# Altium footprint library CONN_TBLOCK_8P25to15P0.PcbLib: 118 footprints (part 8 of 8)
Each footprint in its own frame and in the unit in brackets; x right, y up, seen from the top. Pads: shape width x height; smd on the part's side, far side on the other; paste and mask are expansions set on the pad; w line width, h text height; cw(c..) or ccw(c..) is an arc to the next point about the centre after c.
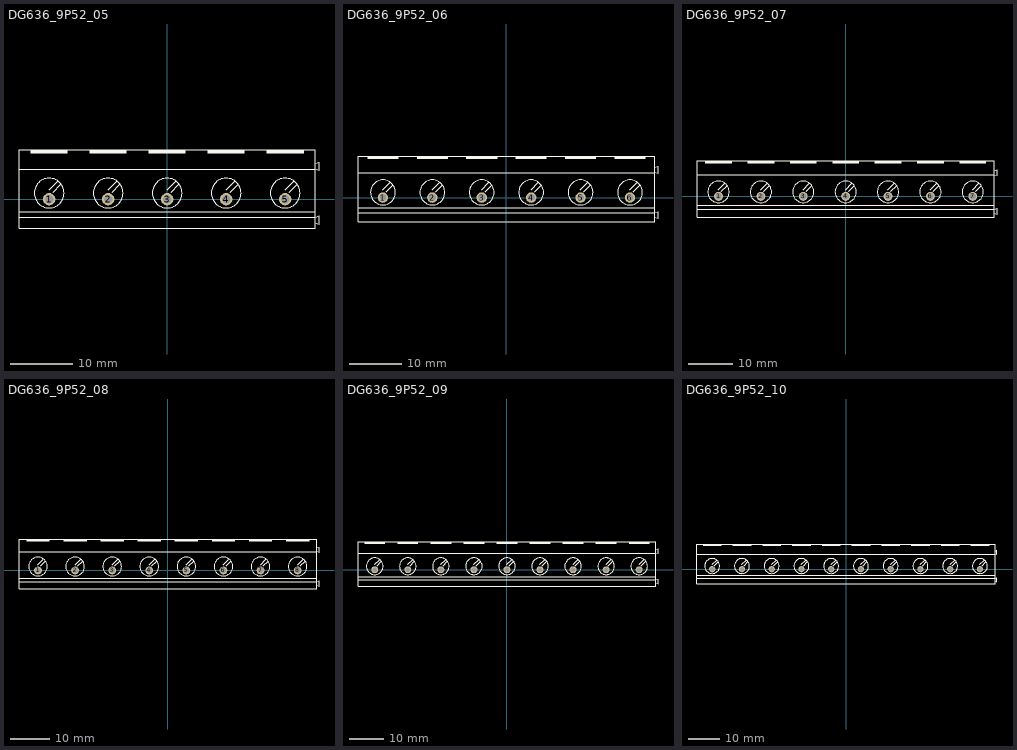
[diagram p7: the footprints below, top view; thin cyan lines are the x and y axes]

## DG636_9P52_05 [mm] "Terminal Block Screw, Pitch 9.52mm, 30A/300v"
height 21.5
pads (5):
  round 2 / inner round 2 / far side oval 2.8x4 hole 1.4: 1(-19.04,0) 2(-9.52,0) 3(0,0) 4(9.52,0) 5(19.04,0)
Top Overlay:
  circle w0.2: c19.04,1 r2.4
  circle w0.2: c9.52,1 r2.4
  circle w0.2: c0,1 r2.4
  circle w0.2: c-9.52,1 r2.4
  circle w0.2: c-19.04,1 r2.4
  rectangle: 16.04,7.4 22.04,8
  rectangle: 6.52,7.4 12.52,8
  rectangle: -3,7.4 3,8
  rectangle: -12.52,7.4 -6.52,8
  rectangle: -22.04,7.4 -16.04,8
  lines w0.2: -23.9,-2.9 23.9,-2.9 24.5,-2.7 24.5,-4 23.9,-3.8 ; -23.9,-2 23.9,-2 ; -23.9,4.8 23.9,4.8 ; -19.052,1.512 -17.652,2.912 ; -18.378,1.138 -17.128,2.388 ; -9.532,1.512 -8.132,2.912 ; -8.858,1.138 -7.608,2.388 ; -0.012,1.512 1.388,2.912 ; 0.662,1.138 1.912,2.388 ; 9.508,1.512 10.908,2.912 ; 10.182,1.138 11.432,2.388 ; 19.028,1.512 20.428,2.912 ; 19.702,1.138 20.952,2.388 ; 23.9,4.9 24.5,4.7 24.5,6 23.9,5.8 ; -23.9,-4.7 -23.9,8 23.9,8 23.9,-4.7 -23.9,-4.7
3D body "DG636-9.52-03P.stp": height 21.56, standoff -4.94, extent -4.795,-4.6 24.315,7.9
3D body "DG636-9.52-02P.stp": height 21.56, standoff -4.94, extent -23.835,-4.6 -4.245,7.9

## DG636_9P52_06 [mm] "Terminal Block Screw, Pitch 9.52mm, 30A/300v"
height 21.5
pads (6):
  round 2 / inner round 2 / far side oval 2.8x4 hole 1.4: 1(-23.8,0) 2(-14.28,0) 3(-4.76,0) 4(4.76,0) 5(14.28,0) 6(23.8,0)
Top Overlay:
  circle w0.2: c-23.8,1 r2.4
  circle w0.2: c-14.28,1 r2.4
  circle w0.2: c-4.76,1 r2.4
  circle w0.2: c4.76,1 r2.4
  circle w0.2: c14.28,1 r2.4
  circle w0.2: c23.8,1 r2.4
  rectangle: -26.8,7.4 -20.8,8
  rectangle: -17.28,7.4 -11.28,8
  rectangle: -7.76,7.4 -1.76,8
  rectangle: 1.76,7.4 7.76,8
  rectangle: 11.28,7.4 17.28,8
  rectangle: 20.8,7.4 26.8,8
  lines w0.2: -28.6,-2.9 28.6,-2.9 29.2,-2.7 29.2,-4 28.6,-3.8 ; -28.6,-2 28.6,-2 ; -28.6,4.8 28.6,4.8 ; -23.812,1.512 -22.412,2.912 ; -23.138,1.138 -21.888,2.388 ; -14.292,1.512 -12.892,2.912 ; -13.618,1.138 -12.368,2.388 ; -4.772,1.512 -3.372,2.912 ; -4.098,1.138 -2.848,2.388 ; 4.748,1.512 6.148,2.912 ; 5.422,1.138 6.672,2.388 ; 14.268,1.512 15.668,2.912 ; 14.942,1.138 16.192,2.388 ; 23.788,1.512 25.188,2.912 ; 24.462,1.138 25.712,2.388 ; 28.6,4.9 29.2,4.7 29.2,6 28.6,5.8 ; -28.6,-4.7 28.6,-4.7 28.6,8 -28.6,8 -28.6,-4.7
3D body "DG636-9.52-03P.stp": height 21.56, standoff -4.94, extent -28.595,-4.6 0.515,7.9
3D body "DG636-9.52-03P.stp": height 21.56, standoff -4.94, extent -0.035,-4.6 29.075,7.9

## DG636_9P52_07 [mm] "Terminal Block Screw, Pitch 9.52mm, 30A/300v"
height 21.5
pads (7):
  round 2 / inner round 2 / far side oval 2.8x4 hole 1.4: 1(-28.56,0) 2(-19.04,0) 3(-9.52,0) 4(0,0) 5(9.52,0) 6(19.04,0) 7(28.56,0)
Top Overlay:
  circle w0.2: c-28.56,1 r2.4
  circle w0.2: c-19.04,1 r2.4
  circle w0.2: c-9.52,1 r2.4
  circle w0.2: c0,1 r2.4
  circle w0.2: c9.52,1 r2.4
  circle w0.2: c19.04,1 r2.4
  circle w0.2: c28.56,1 r2.4
  rectangle: -31.56,7.4 -25.56,8
  rectangle: -22.04,7.4 -16.04,8
  rectangle: -12.52,7.4 -6.52,8
  rectangle: -3,7.4 3,8
  rectangle: 6.52,7.4 12.52,8
  rectangle: 16.04,7.4 22.04,8
  rectangle: 25.56,7.4 31.56,8
  lines w0.2: -33.4,-2.9 33.4,-2.9 34,-2.7 34,-4 33.4,-3.8 ; -33.4,-2 33.4,-2 ; -33.4,4.8 33.4,4.8 ; -28.572,1.512 -27.172,2.912 ; -27.898,1.138 -26.648,2.388 ; -19.052,1.512 -17.652,2.912 ; -18.378,1.138 -17.128,2.388 ; -9.532,1.512 -8.132,2.912 ; -8.858,1.138 -7.608,2.388 ; -0.012,1.512 1.388,2.912 ; 0.662,1.138 1.912,2.388 ; 9.508,1.512 10.908,2.912 ; 10.182,1.138 11.432,2.388 ; 19.028,1.512 20.428,2.912 ; 19.702,1.138 20.952,2.388 ; 28.548,1.512 29.948,2.912 ; 29.222,1.138 30.472,2.388 ; 33.4,4.9 34,4.7 34,6 33.4,5.8 ; -33.4,-4.7 33.4,-4.7 33.4,8 -33.4,8 -33.4,-4.7
3D body "DG636-9.52-02P.stp": height 21.56, standoff -4.94, extent -33.355,-4.6 -13.765,7.9
3D body "DG636-9.52-03P.stp": height 21.56, standoff -4.94, extent -14.315,-4.6 14.795,7.9
3D body "DG636-9.52-02P.stp": height 21.56, standoff -4.94, extent 14.245,-4.6 33.835,7.9

## DG636_9P52_08 [mm] "Terminal Block Screw, Pitch 9.52mm, 30A/300v"
height 21.5
pads (8):
  round 2 / inner round 2 / far side oval 2.8x4 hole 1.4: 1(-33.32,0) 2(-23.8,0) 3(-14.28,0) 4(-4.76,0) 5(4.76,0) 6(14.28,0) 7(23.8,0) 8(33.32,0)
Top Overlay:
  circle w0.2: c-33.32,1 r2.4
  circle w0.2: c-23.8,1 r2.4
  circle w0.2: c-14.28,1 r2.4
  circle w0.2: c-4.76,1 r2.4
  circle w0.2: c4.76,1 r2.4
  circle w0.2: c14.28,1 r2.4
  circle w0.2: c23.8,1 r2.4
  circle w0.2: c33.32,1 r2.4
  rectangle: -36.32,7.4 -30.32,8
  rectangle: -26.8,7.4 -20.8,8
  rectangle: -17.28,7.4 -11.28,8
  rectangle: -7.76,7.4 -1.76,8
  rectangle: 1.76,7.4 7.76,8
  rectangle: 11.28,7.4 17.28,8
  rectangle: 20.8,7.4 26.8,8
  rectangle: 30.32,7.4 36.32,8
  lines w0.2: -38.2,-2.9 38.2,-2.9 38.8,-2.7 38.8,-4 38.2,-3.8 ; -38.2,-2 38.2,-2 ; -38.2,4.8 38.2,4.8 ; -33.332,1.512 -31.932,2.912 ; -32.658,1.138 -31.408,2.388 ; -23.812,1.512 -22.412,2.912 ; -23.138,1.138 -21.888,2.388 ; -14.292,1.512 -12.892,2.912 ; -13.618,1.138 -12.368,2.388 ; -4.772,1.512 -3.372,2.912 ; -4.098,1.138 -2.848,2.388 ; 4.748,1.512 6.148,2.912 ; 5.422,1.138 6.672,2.388 ; 14.268,1.512 15.668,2.912 ; 14.942,1.138 16.192,2.388 ; 23.788,1.512 25.188,2.912 ; 24.462,1.138 25.712,2.388 ; 33.308,1.512 34.708,2.912 ; 33.982,1.138 35.232,2.388 ; 38.2,4.9 38.8,4.7 38.8,6 38.2,5.8 ; -38.2,-4.7 38.2,-4.7 38.2,8 -38.2,8 -38.2,-4.7
3D body "DG636-9.52-02P.stp": height 21.56, standoff -4.94, extent -38.115,-4.6 -18.525,7.9
3D body "DG636-9.52-03P.stp": height 21.56, standoff -4.94, extent -19.075,-4.6 10.035,7.9
3D body "DG636-9.52-03P.stp": height 21.56, standoff -4.94, extent 9.505,-4.5 38.615,8

## DG636_9P52_09 [mm] "Terminal Block Screw, Pitch 9.52mm, 30A/300v"
height 21.5
pads (9):
  round 2 / inner round 2 / far side oval 2.8x4 hole 1.4: 1(-38.08,0) 2(-28.56,0) 3(-19.04,0) 4(-9.52,0) 5(0,0) 6(9.52,0) 7(19.04,0) 8(28.56,0) 9(38.08,0)
Top Overlay:
  circle w0.2: c-38.08,1 r2.4
  circle w0.2: c-28.56,1 r2.4
  circle w0.2: c-19.04,1 r2.4
  circle w0.2: c-9.52,1 r2.4
  circle w0.2: c0,1 r2.4
  circle w0.2: c9.52,1 r2.4
  circle w0.2: c19.04,1 r2.4
  circle w0.2: c28.56,1 r2.4
  circle w0.2: c38.08,1 r2.4
  rectangle: -41.08,7.4 -35.08,8
  rectangle: -31.56,7.4 -25.56,8
  rectangle: -22.04,7.4 -16.04,8
  rectangle: -12.52,7.4 -6.52,8
  rectangle: -3,7.4 3,8
  rectangle: 6.52,7.4 12.52,8
  rectangle: 16.04,7.4 22.04,8
  rectangle: 25.56,7.4 31.56,8
  rectangle: 35.08,7.4 41.08,8
  lines w0.2: -42.9,-2.9 42.9,-2.9 43.5,-2.7 43.5,-4 42.9,-3.8 ; -42.9,-2 42.9,-2 ; -42.9,4.8 42.9,4.8 ; -38.092,1.512 -36.692,2.912 ; -37.418,1.138 -36.168,2.388 ; -28.572,1.512 -27.172,2.912 ; -27.898,1.138 -26.648,2.388 ; -19.052,1.512 -17.652,2.912 ; -18.378,1.138 -17.128,2.388 ; -9.532,1.512 -8.132,2.912 ; -8.858,1.138 -7.608,2.388 ; -0.012,1.512 1.388,2.912 ; 0.662,1.138 1.912,2.388 ; 9.508,1.512 10.908,2.912 ; 10.182,1.138 11.432,2.388 ; 19.028,1.512 20.428,2.912 ; 19.702,1.138 20.952,2.388 ; 28.548,1.512 29.948,2.912 ; 29.222,1.138 30.472,2.388 ; 38.068,1.512 39.468,2.912 ; 38.742,1.138 39.992,2.388 ; 42.9,4.9 43.5,4.7 43.5,6 42.9,5.8 ; -42.9,-4.7 42.9,-4.7 42.9,8 -42.9,8 -42.9,-4.7
3D body "DG636-9.52-03P.stp": height 21.56, standoff -4.94, extent 14.245,-4.6 43.355,7.9
3D body "DG636-9.52-03P.stp": height 21.56, standoff -4.94, extent -42.875,-4.6 -13.765,7.9
3D body "DG636-9.52-03P.stp": height 21.56, standoff -4.94, extent -14.315,-4.6 14.795,7.9

## DG636_9P52_10 [mm] "Terminal Block Screw, Pitch 9.52mm, 30A/300v"
height 21.5
pads (10):
  round 2 / inner round 2 / far side oval 2.8x4 hole 1.4: 1(-42.84,0) 2(-33.32,0) 3(-23.8,0) 4(-14.28,0) 5(-4.76,0) 6(4.76,0) 7(14.28,0) 8(23.8,0) 9(33.32,0) 10(42.84,0)
Top Overlay:
  circle w0.2: c42.84,1 r2.4
  circle w0.2: c33.32,1 r2.4
  circle w0.2: c23.8,1 r2.4
  circle w0.2: c14.28,1 r2.4
  circle w0.2: c4.76,1 r2.4
  circle w0.2: c-4.76,1 r2.4
  circle w0.2: c-14.28,1 r2.4
  circle w0.2: c-23.8,1 r2.4
  circle w0.2: c-33.32,1 r2.4
  circle w0.2: c-42.84,1 r2.4
  rectangle: 39.84,7.4 45.84,8
  rectangle: 30.32,7.4 36.32,8
  rectangle: 20.8,7.4 26.8,8
  rectangle: 11.28,7.4 17.28,8
  rectangle: 1.76,7.4 7.76,8
  rectangle: -7.76,7.4 -1.76,8
  rectangle: -17.28,7.4 -11.28,8
  rectangle: -26.8,7.4 -20.8,8
  rectangle: -36.32,7.4 -30.32,8
  rectangle: -45.84,7.4 -39.84,8
  lines w0.2: -47.7,-2.9 47.7,-2.9 48.3,-2.7 48.3,-4 47.7,-3.8 ; -47.7,-2 47.7,-2 ; -47.7,4.8 47.7,4.8 ; -42.852,1.512 -41.452,2.912 ; -42.178,1.138 -40.928,2.388 ; -33.332,1.512 -31.932,2.912 ; -32.658,1.138 -31.408,2.388 ; -23.812,1.512 -22.412,2.912 ; -23.138,1.138 -21.888,2.388 ; -14.292,1.512 -12.892,2.912 ; -13.618,1.138 -12.368,2.388 ; -4.772,1.512 -3.372,2.912 ; -4.098,1.138 -2.848,2.388 ; 4.748,1.512 6.148,2.912 ; 5.422,1.138 6.672,2.388 ; 14.268,1.512 15.668,2.912 ; 14.942,1.138 16.192,2.388 ; 23.788,1.512 25.188,2.912 ; 24.462,1.138 25.712,2.388 ; 33.308,1.512 34.708,2.912 ; 33.982,1.138 35.232,2.388 ; 42.828,1.512 44.228,2.912 ; 43.502,1.138 44.752,2.388 ; 47.7,4.9 48.3,4.7 48.3,6 47.7,5.8 ; -47.7,-4.7 -47.7,8 47.7,8 47.7,-4.7 -47.7,-4.7
3D body "DG636-9.52-03P.stp": height 21.56, standoff -4.94, extent 19.005,-4.6 48.115,7.9
3D body "DG636-9.52-02P.stp": height 21.56, standoff -4.94, extent -0.035,-4.6 19.555,7.9
3D body "DG636-9.52-03P.stp": height 21.56, standoff -4.94, extent -28.595,-4.6 0.515,7.9
3D body "DG636-9.52-02P.stp": height 21.56, standoff -4.94, extent -47.635,-4.6 -28.045,7.9